# EAGLE library part MAX17639AFN+ (library MAX17639AFN+)
3V to 36V, 6A/8A/10A, 12A Peak, High-Efficiency, Synchronous Step-Down DC-DC Converter Source: Datasheet <https://www.analog.com/MAX17639/datasheet>
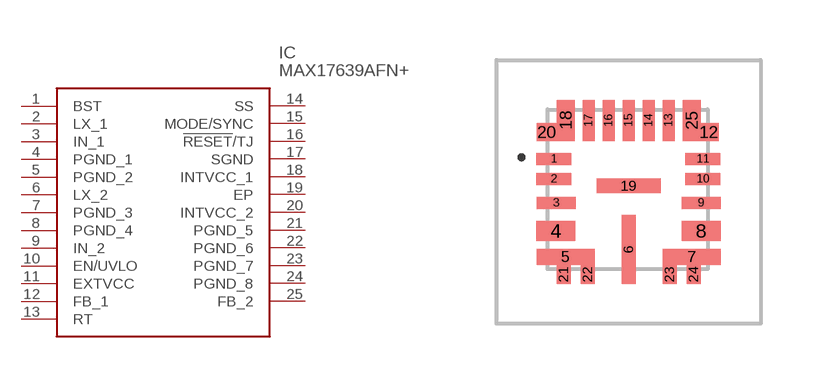
[diagram p0: symbol with the pads of MAX17793AFN; footprint MAX17793AFN]

Designator prefix IC

## MAX17639AFN+ (Description: 3V to 36V, 6A/8A/10A, 12A Peak, High-Efficiency, Synchronous Step-Down DC-DC Converter; Height: 0.8mm; Manufacturer_Name: Analog Devices; Manufacturer_Part_Number: MAX17639AFN+)  [MAX17793AFN]
1  BST
2  LX_1
3  IN_1
4  PGND_1
5  PGND_2
6  LX_2
7  PGND_3
8  PGND_4
9  IN_2
10  EN/UVLO
11  EXTVCC
12  FB_1
13  RT
14  SS
15  MODE/SYNC
16  !RESET!/TJ
17  SGND
18  INTVCC_1
19  EP
20  INTVCC_2
21  PGND_5
22  PGND_6
23  PGND_7
24  PGND_8
25  FB_2

## Footprint MAX17793AFN (pad centres in mm)
F184A4F+1
smd 0.875 x 0.3: 1 -1.838,0.963; 2 -1.838,0.463; 10 1.887,0.463; 11 1.887,0.963
smd 0.975 x 0.3: 3 -1.787,-0.137; 9 1.838,-0.137
smd 0.975 x 0.5: 4 -1.788,-0.837; 8 1.838,-0.837
smd 1.45 x 0.4: 5 -1.55,-1.487; 7 1.6,-1.487
smd 0.35 x 1.725: 6 0.025,-1.3
smd 0.5 x 0.45: 12 2.025,1.638; 20 -2.025,1.638
smd 0.3 x 1.025: 13 1.025,1.925; 14 0.525,1.925; 15 0.025,1.925; 16 -0.475,1.925; 17 -0.975,1.925
smd 0.45 x 1.025: 18 -1.55,1.925; 25 1.6,1.925
smd 1.6 x 0.365: 19 0.025,0.286
smd 0.35 x 0.475: 21 -1.6,-1.925; 22 -1,-1.925; 23 1.05,-1.925; 24 1.65,-1.925